# Altium footprint library BloodPressure.PcbLib: 3 footprints
Each footprint in its own frame and in the unit in brackets; x right, y up, seen from the top. Pads: shape width x height; smd on the part's side, far side on the other; paste and mask are expansions set on the pad; w line width, h text height; cw(c..) or ccw(c..) is an arc to the next point about the centre after c.
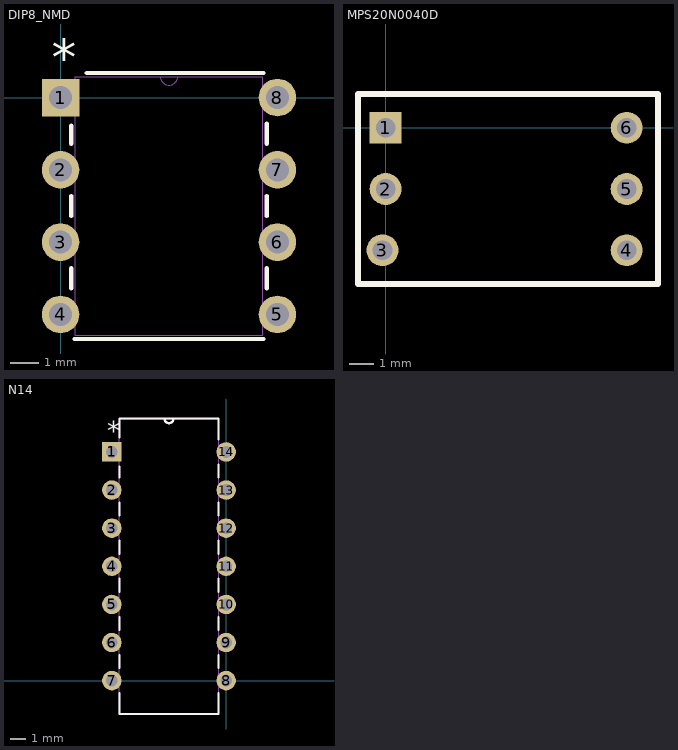
[diagram p0: the footprints below, top view; thin cyan lines are the x and y axes]

## DIP8_NMD [mil]
pads (8):
  rect 52x52 / inner round 60 / far side rect 52x52 hole 32 paste-26 mask+0: 1(0,0)
  round 52 / inner round 60 / far side round 52 hole 32 paste-26 mask+0: 2(0,-100) 3(0,-200) 4(0,-300) 5(300,-300) 6(300,-200) 7(300,-100) 8(300,0)
Top Overlay:
  lines w6: 15,-263.89 15,-236.11 ; 15,-163.89 15,-136.11 ; 15,-63.89 15,-39.1 ; 19.31,-334 280.69,-334 ; 36.37,34 280.69,34 ; 285,-263.89 285,-236.11 ; 285,-163.89 285,-136.11 ; 285,-63.89 285,-36.11
  text "*" at -12.5,31 h50
Mechanical 13:
  lines w0: 138,29 ccw(c150,29) 162,29
  lines w1: -16,-316 20,-316 20,-284 -16,-284 -16,-316 ; -16,-216 20,-216 20,-184 -16,-184 -16,-216 ; -16,-116 20,-116 20,-84 -16,-84 -16,-116 ; -16,-16 20,-16 20,16 -16,16 -16,-16 ; 20,-329 20,29 280,29 280,-329 20,-329 ; 280,-316 316,-316 316,-284 280,-284 280,-316 ; 280,-216 316,-216 316,-184 280,-184 280,-216 ; 280,-116 316,-116 316,-84 280,-84 280,-116 ; 280,-16 316,-16 316,16 280,16 280,-16
  text "*" at 17.5,-25 h50
3D body "DIP8_NMD.step": height 172.09, standoff -100, extent -5,-329.02 315,29.02

## MPS20N0040D [mil]
pads (6):
  rect 52x52 hole 32: 1(0,0)
  round 52 hole 32: 2(0,-100) 3(-5,-200) 4(393.7,-200) 5(393.7,-100) 6(393.7,0)
Top Overlay:
  lines w10: -45,-255 445,-255 445,55 440,55 -45,55 -45,-255
3D body "MPS20N0040D-D.STEP": height 352.36, standoff -184.13, extent -12.54,-258.38 412.56,68.39

## N14 [mil]
pads (14):
  rect 51x51 / inner round 60 / far side rect 51x51 hole 31 paste-25.5 mask-25.5: 1(-300,600)
  round 51 / inner round 60 / far side round 51 hole 31 paste-25.5 mask-25.5: 2(-300,500) 3(-300,400) 4(-300,300) 5(-300,200) 6(-300,100) 7(-300,0) 8(0,0) 9(0,100) 10(0,200) 11(0,300) 12(0,400) 13(0,500) 14(0,600)
Top Overlay:
  lines w6: -280,-33.01 -280,-87.5 -20,-87.5 -20,-33.01 ; -280,33.01 -280,66.99 ; -280,133.01 -280,166.99 ; -280,233.01 -280,266.99 ; -280,333.01 -280,366.99 ; -280,433.01 -280,466.99 ; -280,533.01 -280,561.4 ; -280,638.6 -280,687.5 -20,687.5 -20,633.01 ; -162,687.5 ccw(c-150,687.5) -138,687.5 ; -20,33.01 -20,66.99 ; -20,133.01 -20,166.99 ; -20,233.01 -20,266.99 ; -20,333.01 -20,366.99 ; -20,433.01 -20,466.99 ; -20,533.01 -20,566.99
  text "*" at -312.5,630.5 h50
Mechanical 13:
  lines w0: -162,687.5 ccw(c-150,687.5) -138,687.5
  lines w1: -315.5,-15.5 -315.5,15.5 -280,15.5 -280,-15.5 -315.5,-15.5 ; -315.5,84.5 -315.5,115.5 -280,115.5 -280,84.5 -315.5,84.5 ; -315.5,184.5 -315.5,215.5 -280,215.5 -280,184.5 -315.5,184.5 ; -315.5,284.5 -315.5,315.5 -280,315.5 -280,284.5 -315.5,284.5 ; -315.5,384.5 -315.5,415.5 -280,415.5 -280,384.5 -315.5,384.5 ; -315.5,484.5 -315.5,515.5 -280,515.5 -280,484.5 -315.5,484.5 ; -315.5,584.5 -315.5,615.5 -280,615.5 -280,584.5 -315.5,584.5 ; -280,-87.5 -20,-87.5 -20,687.5 -280,687.5 -280,-87.5 ; -20,-15.5 -20,15.5 15.5,15.5 15.5,-15.5 -20,-15.5 ; -20,84.5 -20,115.5 15.5,115.5 15.5,84.5 -20,84.5 ; -20,184.5 -20,215.5 15.5,215.5 15.5,184.5 -20,184.5 ; -20,284.5 -20,315.5 15.5,315.5 15.5,284.5 -20,284.5 ; -20,384.5 -20,415.5 15.5,415.5 15.5,384.5 -20,384.5 ; -20,484.5 -20,515.5 15.5,515.5 15.5,484.5 -20,484.5 ; -20,584.5 -20,615.5 15.5,615.5 15.5,584.5 -20,584.5
  text "*" at -312.5,630.5 h50
3D body "N14.step": height 205.12, standoff -100, extent -315,-87.48 5,687.48